# EAGLE library part PIC24HJ128GP502-X_SO (library microchip2)
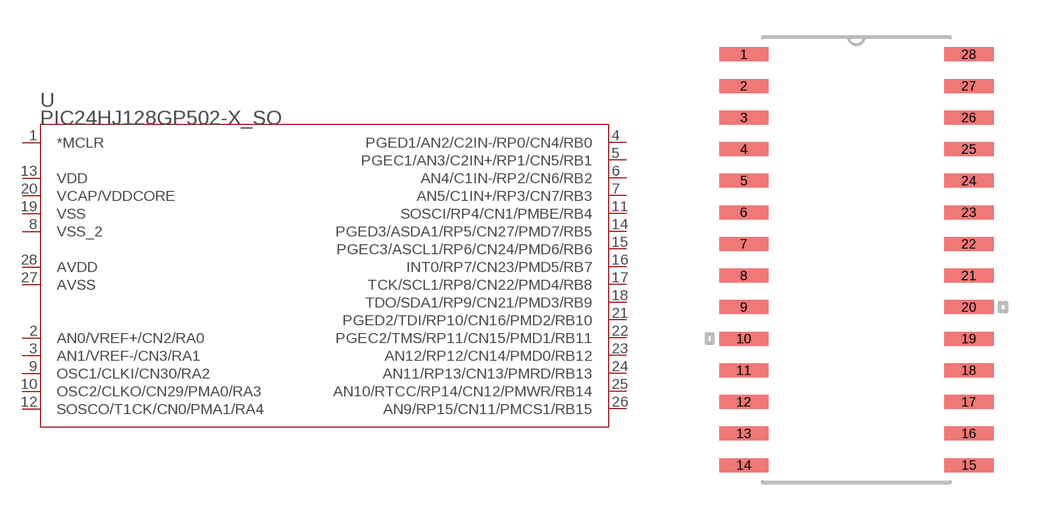
[diagram p0: symbol with the pads of SOIC28-W_MC; footprint SOIC28-W_MC]

Designator prefix -

## PIC24HJ128GP502-X_SO  [SOIC28-W_MC]
1  *MCLR  in
2  AN0/VREF+/CN2/RA0
3  AN1/VREF-/CN3/RA1
4  PGED1/AN2/C2IN-/RP0/CN4/RB0
5  PGEC1/AN3/C2IN+/RP1/CN5/RB1
6  AN4/C1IN-/RP2/CN6/RB2
7  AN5/C1IN+/RP3/CN7/RB3
8  VSS_2  pwr
9  OSC1/CLKI/CN30/RA2
10  OSC2/CLKO/CN29/PMA0/RA3
11  SOSCI/RP4/CN1/PMBE/RB4
12  SOSCO/T1CK/CN0/PMA1/RA4
13  VDD  pwr
14  PGED3/ASDA1/RP5/CN27/PMD7/RB5
15  PGEC3/ASCL1/RP6/CN24/PMD6/RB6
16  INT0/RP7/CN23/PMD5/RB7
17  TCK/SCL1/RP8/CN22/PMD4/RB8
18  TDO/SDA1/RP9/CN21/PMD3/RB9
19  VSS  pwr
20  VCAP/VDDCORE  pwr
21  PGED2/TDI/RP10/CN16/PMD2/RB10
22  PGEC2/TMS/RP11/CN15/PMD1/RB11
23  AN12/RP12/CN14/PMD0/RB12
24  AN11/RP13/CN13/PMRD/RB13
25  AN10/RTCC/RP14/CN12/PMWR/RB14
26  AN9/RP15/CN11/PMCS1/RB15
27  AVSS  pwr
28  AVDD  pwr

## Footprint SOIC28-W_MC (pad centres in mm)
smd 1.981 x 0.559: 1 -4.521,8.255; 2 -4.521,6.985; 3 -4.521,5.715; 4 -4.521,4.445; 5 -4.521,3.175; 6 -4.521,1.905; 7 -4.521,0.635; 8 -4.521,-0.635; 9 -4.521,-1.905; 10 -4.521,-3.175; 11 -4.521,-4.445; 12 -4.521,-5.715; 13 -4.521,-6.985; 14 -4.521,-8.255; 15 4.521,-8.255; 16 4.521,-6.985; 17 4.521,-5.715; 18 4.521,-4.445; 19 4.521,-3.175; 20 4.521,-1.905; 21 4.521,-0.635; 22 4.521,0.635; 23 4.521,1.905; 24 4.521,3.175; 25 4.521,4.445; 26 4.521,5.715; 27 4.521,6.985; 28 4.521,8.255